# Altium schematic symbol library IND-IHLP1212BZERR56M11.SchLib: 1 symbol
Pins are listed as number, name and electrical type; pins without a type are passive.

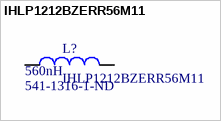
[diagram p0: symbol IHLP1212BZERR56M11]

## IHLP1212BZERR56M11
designator L?  value 560nH  Supplier Part Number 1: 541-1316-1-ND
560nH Shielded Molded Inductor 5.5A 19.4mOhm Max Nonstandard; Supplier 1: Digi-Key
footprint IHLP-1212BZ
pins: 1, 2